# Altium schematic symbol library Resistors.SchLib: 12 symbols
Pins are listed as number, name and electrical type; pins without a type are passive.

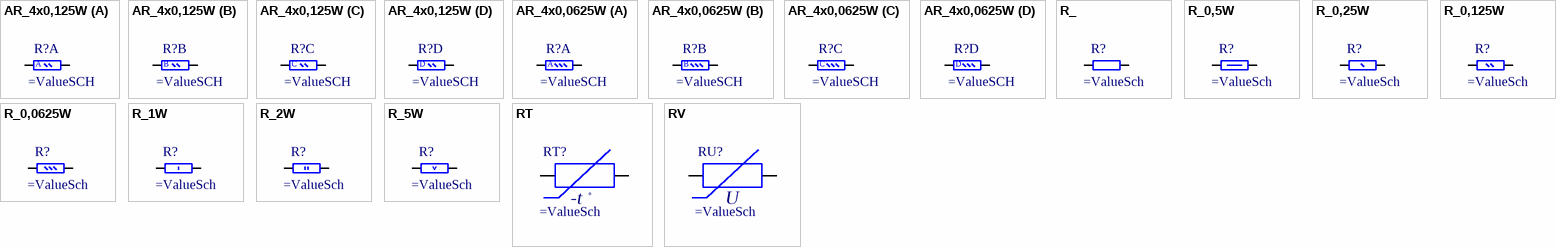
[diagram p0: symbols AR_4x0,125W to RV]

## AR_4x0,125W
designator R?
Матрица резисторов 4x0,125
part A pins: 1, 8
part B pins: 2, 7
part C pins: 3, 6
part D pins: 4, 5
part A text: A
part B text: B
part C text: C
part D text: D

## AR_4x0,0625W
designator R?
Матрица резисторов 4x0,0625Вт
part A pins: 1, 8
part B pins: 2, 7
part C pins: 3, 6
part D pins: 4, 5
part A text: A
part B text: B
part C text: C
part D text: D

## R_
designator R?
УГО Резистора
pins: 1, 2

## R_0,5W
designator R?
УГО Резистора 0,5Вт
pins: 1, 2

## R_0,25W
designator R?
УГО Резистора 0,25Вт
pins: 1, 2

## R_0,125W
designator R?
УГО Резистора 0,125Вт
pins: 1, 2

## R_0,0625W
designator R?
УГО Резистора 0,0625Вт
pins: 1, 2

## R_1W
designator R?
УГО Резистора 1Вт
pins: 1, 2

## R_2W
designator R?
УГО Резистора 2Вт
pins: 1, 2

## R_5W
designator R?
УГО Резистора 5Вт
pins: 1, 2

## RT
designator RT?
УГО Терморезистор
pins: 1, 2
text: -t; o

## RV
designator RU?
УГО Варистора
pins: 1, 2
text: U